# EAGLE library part YUN_SHIELD (library yun_shield)
Arduino YUN mini shield. Originally taken from Adafruit's UNO R3 shield.
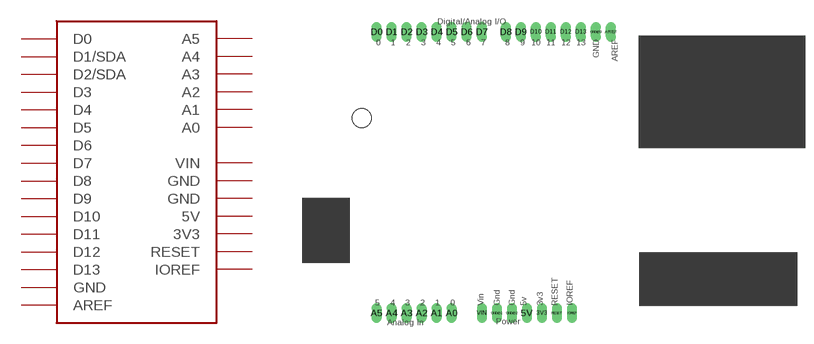
[diagram p0: symbol with the pads of YUN_SHIELD; footprint YUN_SHIELD]

Designator prefix U

## YUN_SHIELD-BPLACE  [YUN_SHIELD]
3V3  3V3  pwr
5V  5V  pwr
A0  A0
A1  A1
A2  A2
A3  A3
A4  A4
A5  A5
AREF  AREF  pwr
D0  D0
D1  D1/SDA
D2  D2/SDA
D3  D3
D4  D4
D5  D5
D6  D6
D7  D7
D8  D8
D9  D9
D10  D10
D11  D11
D12  D12
D13  D13
GND@1  GND  pwr
GND@2  GND  pwr
GND@3  GND  pwr
IOREF  IOREF  pwr
RESET  RESET
VIN  VIN  pwr

## Footprint YUN_SHIELD (pad centres in mm)
drill 1 pad 1.676 long: 3V3 -43.18,2.54; 5V -45.72,2.54; A0 -58.42,2.54; A1 -60.96,2.54; A2 -63.5,2.54; A3 -66.04,2.54; A4 -68.58,2.54; A5 -71.12,2.54; AREF -31.496,50.165; D0 -71.12,50.165; D1 -68.58,50.165; D2 -66.04,50.165; D3 -63.5,50.165; D4 -60.96,50.165; D5 -58.42,50.165; D6 -55.88,50.165; D7 -53.34,50.165; D8 -49.276,50.165; D9 -46.736,50.165; D10 -44.196,50.165; D11 -41.656,50.165; D12 -39.116,50.165; D13 -36.576,50.165; GND@1 -50.8,2.54; GND@2 -48.26,2.54; GND@3 -34.036,50.165; IOREF -38.1,2.54; RESET -40.64,2.54; VIN -53.34,2.54
hole 3.2 at -73.66,35.56